# Altium schematic symbol library SparkFun-Coils.SCHLIB: 67 symbols
Pins are listed as number, name and electrical type; pins without a type are passive.

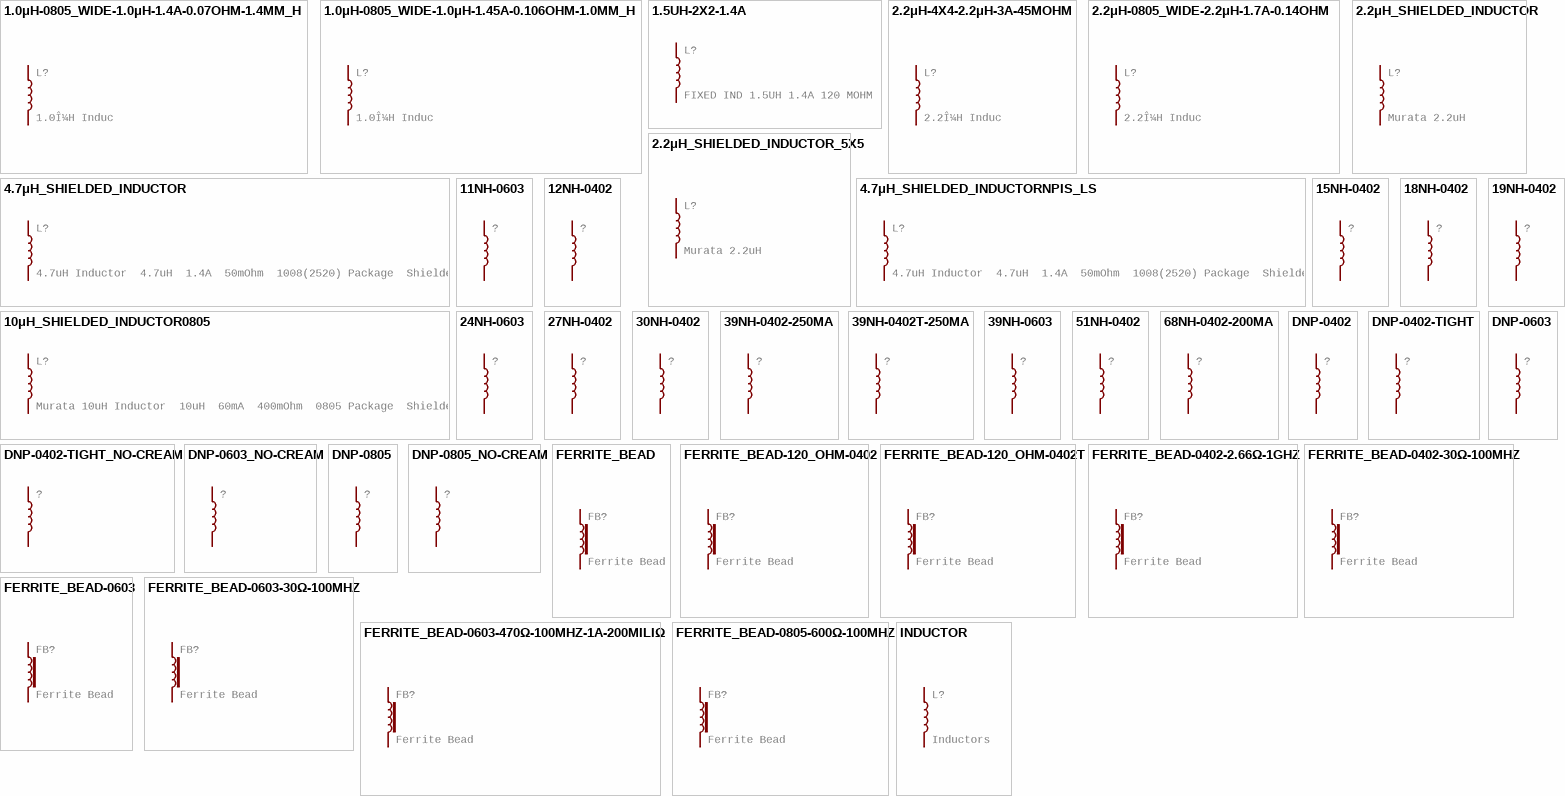
[diagram p0: symbols 1.0μH-0805_WIDE-1.0μH-1.4A-0.07OHM-1.4MM_H to INDUCTOR]

## 1.0μH-0805_WIDE-1.0μH-1.4A-0.07OHM-1.4MM_H
designator L?, comment 1.0Î¼H Inductor    Resist changes in electrical current. Basically a coil of wire.   SparkFun Products:  SparkFun Edge
GateName_1: G$1; DeviceName: -0805_WIDE-1.0μH-1.4A-0.07OHM-1.4MM_H; DeviceSetName: 1.0μH; PROD_ID: NDUC-14237; SymbolName_1: INDUCTOR; LibraryName: SparkFun-Coils; Package: 0805-WIDE
footprint 0805-WIDE
pins: 1, 2

## 1.0μH-0805_WIDE-1.0μH-1.45A-0.106OHM-1.0MM_H
designator L?, comment 1.0Î¼H Inductor    Resist changes in electrical current. Basically a coil of wire.   SparkFun Products:  SparkFun Edge
GateName_1: G$1; DeviceName: -0805_WIDE-1.0μH-1.45A-0.106OHM-1.0MM_H; DeviceSetName: 1.0μH; PROD_ID: NDUC-14375; SymbolName_1: INDUCTOR; LibraryName: SparkFun-Coils; Package: 0805-WIDE
footprint 0805-WIDE
pins: 1, 2

## 1.5UH-2X2-1.4A
designator L?, comment FIXED IND 1.5UH 1.4A 120 MOHM
GateName_1: G$1; SymbolName_1: INDUCTOR; DeviceName: -2X2-1.4A; PROD_ID: NDUC-15405; LibraryName: SparkFun-Coils; DeviceSetName: 1.5UH; Package: INDUCTOR_2X2
footprint INDUCTOR_2X2
pins: P$1 1, P$2 2

## 2.2μH-4X4-2.2μH-3A-45MOHM
designator L?, comment 2.2Î¼H Inductor    Resist changes in electrical current. Basically a coil of wire.   SparkFun Products:  SparkFun Edge - HX711
GateName_1: L1; DeviceName: -4X4-2.2μH-3A-45MOHM; DeviceSetName: 2.2μH; PROD_ID: NDUC-13770; SymbolName_1: INDUCTOR; LibraryName: SparkFun-Coils; Package: INDUCTOR_4X4MM
footprint INDUCTOR_4X4MM
pins: P$1 1, P$2 2

## 2.2μH-0805_WIDE-2.2μH-1.7A-0.14OHM
designator L?, comment 2.2Î¼H Inductor    Resist changes in electrical current. Basically a coil of wire.   SparkFun Products:  SparkFun Edge - HX711
GateName_1: L1; DeviceName: -0805_WIDE-2.2μH-1.7A-0.14OHM; DeviceSetName: 2.2μH; PROD_ID: NDUC-14234; SymbolName_1: INDUCTOR; LibraryName: SparkFun-Coils; Package: 0805-WIDE
footprint 0805-WIDE
pins: 1, 2

## 2.2μH_SHIELDED_INDUCTOR
designator L?, comment Murata 2.2uH Inductor  2.2uH  1.2A  110mOhm  0806 Package  Shielded       Bourns 2.2uH Inductor  2.2uH  5.5A  205mOhm  5x5mm Package  Shielded
GateName_1: G$1; DeviceSetName: 2.2μH_SHIELDED_INDUCTOR; PROD_ID: NDUC-14257; SymbolName_1: INDUCTOR; LibraryName: SparkFun-Coils; Package: 0806
footprint 0806
pins: 1, 2

## 2.2μH_SHIELDED_INDUCTOR_5X5
designator L?, comment Murata 2.2uH Inductor  2.2uH  1.2A  110mOhm  0806 Package  Shielded       Bourns 2.2uH Inductor  2.2uH  5.5A  205mOhm  5x5mm Package  Shielded
GateName_1: G$1; DeviceName: _5X5; DeviceSetName: 2.2μH_SHIELDED_INDUCTOR; PROD_ID: NDUC-15453; SymbolName_1: INDUCTOR; LibraryName: SparkFun-Coils; Package: INDUCTOR_5X5MM
footprint INDUCTOR_5X5MM
pins: P$1 1, P$2 2

## 4.7μH_SHIELDED_INDUCTOR
designator L?, comment 4.7uH Inductor  4.7uH  1.4A  50mOhm  1008(2520) Package  Shielded
GateName_1: L1; DeviceSetName: 4.7μH_SHIELDED_INDUCTOR; PROD_ID: NDUC-14880; SymbolName_1: INDUCTOR; LibraryName: SparkFun-Coils; Package: 1008(2520)
footprint 1008(2520)
pins: 1, 2

## 4.7μH_SHIELDED_INDUCTORNPIS_LS
designator L?, comment 4.7uH Inductor  4.7uH  1.4A  50mOhm  1008(2520) Package  Shielded
GateName_1: L1; DeviceName: NPIS_LS; DeviceSetName: 4.7μH_SHIELDED_INDUCTOR; PROD_ID: NDUC-15245; SymbolName_1: INDUCTOR; LibraryName: SparkFun-Coils; Package: INDUCTOR_4X4MM
footprint INDUCTOR_4X4MM
pins: P$1 1, P$2 2

## 10μH_SHIELDED_INDUCTOR0805
designator L?, comment Murata 10uH Inductor  10uH  60mA  400mOhm  0805 Package  Shielded
GateName_1: G$1; DeviceName: 0805; DeviceSetName: 10μH_SHIELDED_INDUCTOR; PROD_ID: NDUC-13231; SymbolName_1: INDUCTOR; LibraryName: SparkFun-Coils; Package: 0805
footprint 0805
pins: 1, 2

## 11NH-0603
designator ?
GateName_1: G$1; SymbolName_1: INDUCTOR; DeviceName: -0603; DeviceSetName: 11NH; PROD_ID: NDUC-14354; LibraryName: SparkFun-Coils; Package: 0603_MURATA
footprint 0603_MURATA
pins: P$1 1, P$2 2

## 12NH-0402
designator ?
GateName_1: G$1; SymbolName_1: INDUCTOR; DeviceName: -0402; DeviceSetName: 12NH; PROD_ID: NDUC-15271; LibraryName: SparkFun-Coils; Package: 0402_COILCRAFT; MOUSER_PART: 994-0402HP-12NXGLU
footprint 0402_COILCRAFT
pins: P$1 1, P$2 2

## 15NH-0402
designator ?
GateName_1: G$1; SymbolName_1: INDUCTOR; DeviceName: -0402; DeviceSetName: 15NH; PROD_ID: NDUC-15272; LibraryName: SparkFun-Coils; Package: 0402_COILCRAFT; MOUSER_PART: 994-0402HP-15NXGLU
footprint 0402_COILCRAFT
pins: P$1 1, P$2 2

## 18NH-0402
designator ?
GateName_1: G$1; SymbolName_1: INDUCTOR; DeviceName: -0402; DeviceSetName: 18NH; PROD_ID: NDUC-15277; LibraryName: SparkFun-Coils; Package: 0402_COILCRAFT; MOUSER_PART: 994-0402HP-18NXGLU
footprint 0402_COILCRAFT
pins: P$1 1, P$2 2

## 19NH-0402
designator ?
GateName_1: G$1; SymbolName_1: INDUCTOR; DeviceName: -0402; DeviceSetName: 19NH; PROD_ID: NDUC-14352; LibraryName: SparkFun-Coils; Package: 0402_MURATA
footprint 0402_MURATA
pins: P$1 1, P$2 2

## 24NH-0603
designator ?
GateName_1: G$1; SymbolName_1: INDUCTOR; DeviceName: -0603; DeviceSetName: 24NH; PROD_ID: NDUC-14353; LibraryName: SparkFun-Coils; Package: 0603_MURATA
footprint 0603_MURATA
pins: P$1 1, P$2 2

## 27NH-0402
designator ?
GateName_1: G$1; SymbolName_1: INDUCTOR; DeviceName: -0402; DeviceSetName: 27NH; PROD_ID: NDUC-15273; LibraryName: SparkFun-Coils; Package: 0402_COILCRAFT; MOUSER_PART: 994-0402HP-27NXGLU
footprint 0402_COILCRAFT
pins: P$1 1, P$2 2

## 30NH-0402
designator ?
GateName_1: G$1; SymbolName_1: INDUCTOR; DeviceName: -0402; DeviceSetName: 30NH; PROD_ID: NDUC-15275; LibraryName: SparkFun-Coils; Package: 0402_COILCRAFT; MOUSER_PART: 994-0402HP-30NXGLU
footprint 0402_COILCRAFT
pins: P$1 1, P$2 2

## 39NH-0402-250MA
designator ?
GateName_1: G$1; SymbolName_1: INDUCTOR; DeviceName: -0402-250MA; DeviceSetName: 39NH; PROD_ID: NDUC-15408; LibraryName: SparkFun-Coils; Package: 0402
footprint 0402
pins: 1, 2

## 39NH-0402T-250MA
designator ?
GateName_1: G$1; SymbolName_1: INDUCTOR; DeviceName: -0402T-250MA; DeviceSetName: 39NH; PROD_ID: NDUC-15408; LibraryName: SparkFun-Coils; Package: 0402-TIGHT
footprint 0402-TIGHT
pins: 1, 2

## 39NH-0603
designator ?
GateName_1: G$1; SymbolName_1: INDUCTOR; DeviceName: -0603; DeviceSetName: 39NH; PROD_ID: NDUC-14091; LibraryName: SparkFun-Coils; Package: 0603
footprint 0603
pins: 1, 2

## 51NH-0402
designator ?
GateName_1: G$1; SymbolName_1: INDUCTOR; DeviceName: -0402; DeviceSetName: 51NH; PROD_ID: NDUC-15276; LibraryName: SparkFun-Coils; Package: 0402_COILCRAFT; MOUSER_PART: 994-0402HP-51NXGLU
footprint 0402_COILCRAFT
pins: P$1 1, P$2 2

## 68NH-0402-200MA
designator ?
GateName_1: G$1; SymbolName_1: INDUCTOR; DeviceName: -0402-200MA; DeviceSetName: 68NH; PROD_ID: NDUC-15356; LibraryName: SparkFun-Coils; Package: 0402_COILCRAFT
footprint 0402_COILCRAFT
pins: P$1 1, P$2 2

## DNP-0402
designator ?
GateName_1: L1; SymbolName_1: INDUCTOR; DeviceName: -0402; DeviceSetName: DNP; LibraryName: SparkFun-Coils; Package: 0402
footprint 0402
pins: 1, 2

## DNP-0402-TIGHT
designator ?
GateName_1: L1; SymbolName_1: INDUCTOR; DeviceName: -0402-TIGHT; DeviceSetName: DNP; LibraryName: SparkFun-Coils; Package: 0402-TIGHT
footprint 0402-TIGHT
pins: 1, 2

## DNP-0402-TIGHT_NO-CREAM
designator ?
GateName_1: L1; SymbolName_1: INDUCTOR; DeviceName: -0402-TIGHT_NO-CREAM; DeviceSetName: DNP; LibraryName: SparkFun-Coils; Package: 0402-TIGHT_NO-CREAM
footprint 0402-TIGHT_NO-CREAM
pins: 1, 2

## DNP-0603
designator ?
GateName_1: L1; SymbolName_1: INDUCTOR; DeviceName: -0603; DeviceSetName: DNP; LibraryName: SparkFun-Coils; Package: 0603
footprint 0603
pins: 1, 2

## DNP-0603_NO-CREAM
designator ?
GateName_1: L1; SymbolName_1: INDUCTOR; DeviceName: -0603_NO-CREAM; DeviceSetName: DNP; LibraryName: SparkFun-Coils; Package: 0603_NO-CREAM
footprint 0603_NO-CREAM
pins: 1, 2

## DNP-0805
designator ?
GateName_1: L1; SymbolName_1: INDUCTOR; DeviceName: -0805; DeviceSetName: DNP; LibraryName: SparkFun-Coils; Package: 0805
footprint 0805
pins: 1, 2

## DNP-0805_NO-CREAM
designator ?
GateName_1: L1; SymbolName_1: INDUCTOR; DeviceName: -0805_NO-CREAM; DeviceSetName: DNP; LibraryName: SparkFun-Coils; Package: 0805_NO-CREAM
footprint 0805_NO-CREAM
pins: 1, 2

## FERRITE_BEAD
designator FB?, comment Ferrite Bead (blocks, cores, rings, chokes, etc.)    Inductor with layers of ferrite used to suppress high frequencies. Often used to isolate high frequency noise.   SparkFun Products:  IOIO-OTG - V2.2  SparkFun SAMD21 Mini Breakout  SparkFun 6 Degrees of Freedom Breakout - LSM6DS3  SparkFun SAMD21 Dev Breakout
GateName_1: G$1; SymbolName_1: FERRITE_BEAD; LibraryName: SparkFun-Coils; DeviceSetName: FERRITE_BEAD; Package: 0402
footprint 0402
pins: 1, 2

## FERRITE_BEAD-120_OHM-0402
designator FB?, comment Ferrite Bead (blocks, cores, rings, chokes, etc.)    Inductor with layers of ferrite used to suppress high frequencies. Often used to isolate high frequency noise.
MFG_PART: BLM15HB121SN1D; GateName_1: G$1; SymbolName_1: FERRITE_BEAD; DeviceName: -0402; DeviceSetName: FERRITE_BEAD-120_OHM; PROD_ID: NDUC-14206; LibraryName: SparkFun-Coils; Package: 0402
footprint 0402
pins: 1, 2

## FERRITE_BEAD-120_OHM-0402T
designator FB?, comment Ferrite Bead (blocks, cores, rings, chokes, etc.)    Inductor with layers of ferrite used to suppress high frequencies. Often used to isolate high frequency noise.
GateName_1: G$1; SymbolName_1: FERRITE_BEAD; DeviceName: -0402T; DeviceSetName: FERRITE_BEAD-120_OHM; PROD_ID: NDUC-14206; LibraryName: SparkFun-Coils; Package: 0402-TIGHT
footprint 0402-TIGHT
pins: 1, 2

## FERRITE_BEAD-0402-2.66Ω-1GHZ
designator FB?, comment Ferrite Bead (blocks, cores, rings, chokes, etc.)    Inductor with layers of ferrite used to suppress high frequencies. Often used to isolate high frequency noise.   SparkFun Products:  IOIO-OTG - V2.2  SparkFun SAMD21 Mini Breakout  SparkFun 6 Degrees of Freedom Breakout - LSM6DS3  SparkFun SAMD21 Dev Breakout
GateName_1: G$1; SymbolName_1: FERRITE_BEAD; DeviceName: -0402-2.66Ω-1GHZ; PROD_ID: NDUC-15072; LibraryName: SparkFun-Coils; DeviceSetName: FERRITE_BEAD; Package: 0402-TIGHT
footprint 0402-TIGHT
pins: 1, 2

## FERRITE_BEAD-0402-30Ω-100MHZ
designator FB?, comment Ferrite Bead (blocks, cores, rings, chokes, etc.)    Inductor with layers of ferrite used to suppress high frequencies. Often used to isolate high frequency noise.   SparkFun Products:  IOIO-OTG - V2.2  SparkFun SAMD21 Mini Breakout  SparkFun 6 Degrees of Freedom Breakout - LSM6DS3  SparkFun SAMD21 Dev Breakout
GateName_1: G$1; SymbolName_1: FERRITE_BEAD; DeviceName: -0402-30Ω-100MHZ; PROD_ID: NDUC-15133; LibraryName: SparkFun-Coils; DeviceSetName: FERRITE_BEAD; Package: 0402-TIGHT
footprint 0402-TIGHT
pins: 1, 2

## FERRITE_BEAD-0603
designator FB?, comment Ferrite Bead (blocks, cores, rings, chokes, etc.)    Inductor with layers of ferrite used to suppress high frequencies. Often used to isolate high frequency noise.   SparkFun Products:  IOIO-OTG - V2.2  SparkFun SAMD21 Mini Breakout  SparkFun 6 Degrees of Freedom Breakout - LSM6DS3  SparkFun SAMD21 Dev Breakout
GateName_1: G$1; SymbolName_1: FERRITE_BEAD; DeviceName: -0603; PROD_ID: NDUC-13805; LibraryName: SparkFun-Coils; DeviceSetName: FERRITE_BEAD; Package: 0603
footprint 0603
pins: 1, 2

## FERRITE_BEAD-0603-30Ω-100MHZ
designator FB?, comment Ferrite Bead (blocks, cores, rings, chokes, etc.)    Inductor with layers of ferrite used to suppress high frequencies. Often used to isolate high frequency noise.   SparkFun Products:  IOIO-OTG - V2.2  SparkFun SAMD21 Mini Breakout  SparkFun 6 Degrees of Freedom Breakout - LSM6DS3  SparkFun SAMD21 Dev Breakout
GateName_1: G$1; SymbolName_1: FERRITE_BEAD; DeviceName: -0603-30Ω-100MHZ; PROD_ID: NDUC-07859; LibraryName: SparkFun-Coils; DeviceSetName: FERRITE_BEAD; Package: 0603
footprint 0603
pins: 1, 2

## FERRITE_BEAD-0603-470Ω-100MHZ-1A-200MILIΩ
designator FB?, comment Ferrite Bead (blocks, cores, rings, chokes, etc.)    Inductor with layers of ferrite used to suppress high frequencies. Often used to isolate high frequency noise.   SparkFun Products:  IOIO-OTG - V2.2  SparkFun SAMD21 Mini Breakout  SparkFun 6 Degrees of Freedom Breakout - LSM6DS3  SparkFun SAMD21 Dev Breakout
GateName_1: G$1; SymbolName_1: FERRITE_BEAD; DeviceName: -0603-470Ω-100MHZ-1A-200MILIΩ; PROD_ID: NDUC-12579; LibraryName: SparkFun-Coils; DeviceSetName: FERRITE_BEAD; Package: 0603
footprint 0603
pins: 1, 2

## FERRITE_BEAD-0805-600Ω-100MHZ
designator FB?, comment Ferrite Bead (blocks, cores, rings, chokes, etc.)    Inductor with layers of ferrite used to suppress high frequencies. Often used to isolate high frequency noise.   SparkFun Products:  IOIO-OTG - V2.2  SparkFun SAMD21 Mini Breakout  SparkFun 6 Degrees of Freedom Breakout - LSM6DS3  SparkFun SAMD21 Dev Breakout
GateName_1: G$1; SymbolName_1: FERRITE_BEAD; DeviceName: -0805-600Ω-100MHZ; PROD_ID: NDUC-14988; LibraryName: SparkFun-Coils; DeviceSetName: FERRITE_BEAD; Package: 0805
footprint 0805
pins: 1, 2

## INDUCTOR
designator L?, comment Inductors    Resist changes in electrical current. Basically a coil of wire.   SparkFun Products:  SparkFun Load Cell Amplifier - HX711  IOIO-OTG - V2.2
GateName_1: G$1; SymbolName_1: INDUCTOR; LibraryName: SparkFun-Coils; DeviceSetName: INDUCTOR; Package: XFL4020
footprint XFL4020
pins: P$1 1, P$2 2

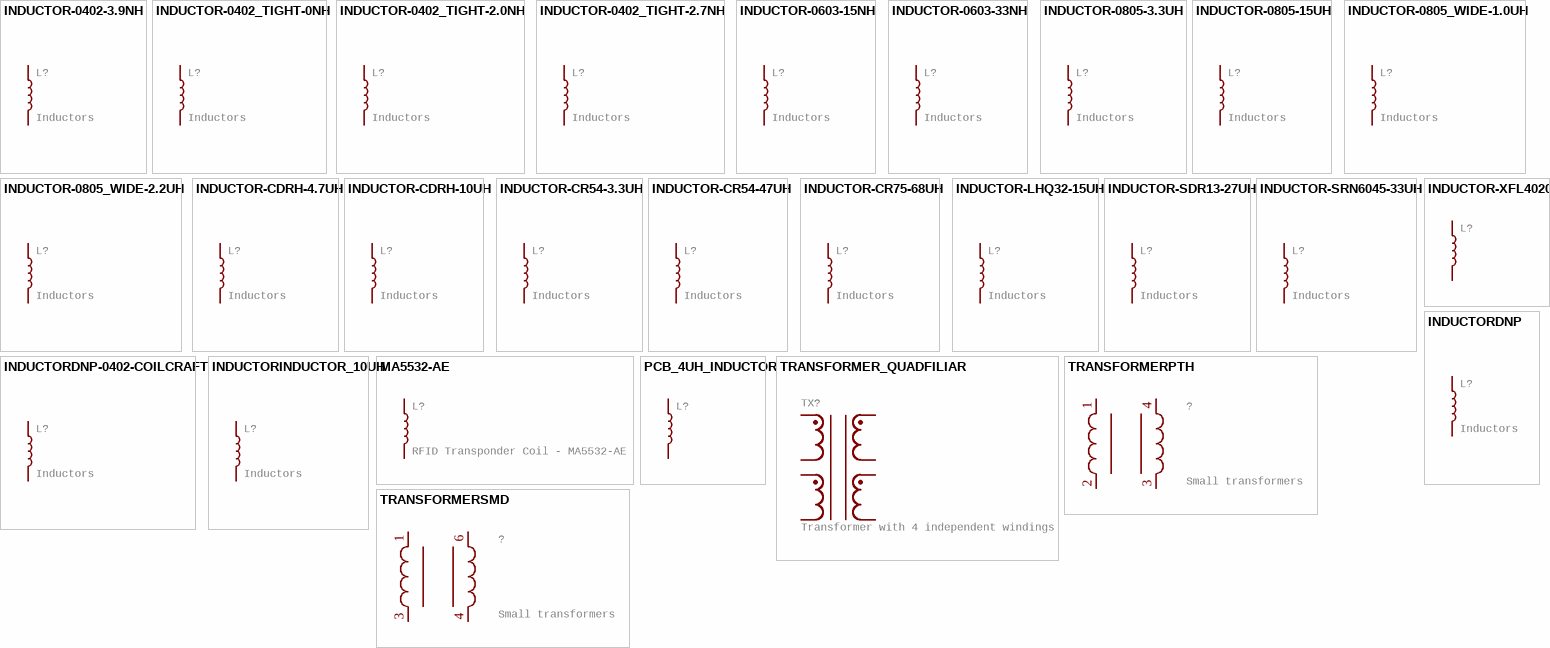
[diagram p1: symbols INDUCTOR-0402-3.9NH to TRANSFORMERSMD]

## INDUCTOR-0402-3.9NH
designator L?, comment Inductors    Resist changes in electrical current. Basically a coil of wire.   SparkFun Products:  SparkFun Load Cell Amplifier - HX711  IOIO-OTG - V2.2
GateName_1: G$1; DeviceName: -0402-3.9NH; PROD_ID: NDUC-13457; SymbolName_1: INDUCTOR; LibraryName: SparkFun-Coils; DeviceSetName: INDUCTOR; Package: 0402
footprint 0402
pins: 1, 2

## INDUCTOR-0402_TIGHT-0NH
designator L?, comment Inductors    Resist changes in electrical current. Basically a coil of wire.   SparkFun Products:  SparkFun Load Cell Amplifier - HX711  IOIO-OTG - V2.2
GateName_1: G$1; DeviceName: -0402_TIGHT-0NH; SymbolName_1: INDUCTOR; LibraryName: SparkFun-Coils; DeviceSetName: INDUCTOR; Package: 0402-TIGHT
footprint 0402-TIGHT
pins: 1, 2

## INDUCTOR-0402_TIGHT-2.0NH
designator L?, comment Inductors    Resist changes in electrical current. Basically a coil of wire.   SparkFun Products:  SparkFun Load Cell Amplifier - HX711  IOIO-OTG - V2.2
GateName_1: G$1; DeviceName: -0402_TIGHT-2.0NH; PROD_ID: NDUC-14238; SymbolName_1: INDUCTOR; LibraryName: SparkFun-Coils; DeviceSetName: INDUCTOR; Package: 0402-TIGHT
footprint 0402-TIGHT
pins: 1, 2

## INDUCTOR-0402_TIGHT-2.7NH
designator L?, comment Inductors    Resist changes in electrical current. Basically a coil of wire.   SparkFun Products:  SparkFun Load Cell Amplifier - HX711  IOIO-OTG - V2.2
GateName_1: G$1; DeviceName: -0402_TIGHT-2.7NH; PROD_ID: NDUC-14236; SymbolName_1: INDUCTOR; LibraryName: SparkFun-Coils; DeviceSetName: INDUCTOR; Package: 0402-TIGHT
footprint 0402-TIGHT
pins: 1, 2

## INDUCTOR-0603-15NH
designator L?, comment Inductors    Resist changes in electrical current. Basically a coil of wire.   SparkFun Products:  SparkFun Load Cell Amplifier - HX711  IOIO-OTG - V2.2
GateName_1: G$1; DeviceName: -0603-15NH; PROD_ID: NDUC-11660; SymbolName_1: INDUCTOR; LibraryName: SparkFun-Coils; DeviceSetName: INDUCTOR; Package: 0603
footprint 0603
pins: 1, 2

## INDUCTOR-0603-33NH
designator L?, comment Inductors    Resist changes in electrical current. Basically a coil of wire.   SparkFun Products:  SparkFun Load Cell Amplifier - HX711  IOIO-OTG - V2.2
GateName_1: G$1; DeviceName: -0603-33NH; PROD_ID: NDUC-07874; SymbolName_1: INDUCTOR; LibraryName: SparkFun-Coils; DeviceSetName: INDUCTOR; Package: 0603
footprint 0603
pins: 1, 2

## INDUCTOR-0805-3.3UH
designator L?, comment Inductors    Resist changes in electrical current. Basically a coil of wire.   SparkFun Products:  SparkFun Load Cell Amplifier - HX711  IOIO-OTG - V2.2
GateName_1: G$1; DeviceName: -0805-3.3UH; PROD_ID: NDUC-13076; SymbolName_1: INDUCTOR; LibraryName: SparkFun-Coils; DeviceSetName: INDUCTOR; Package: 0805
footprint 0805
pins: 1, 2

## INDUCTOR-0805-15UH
designator L?, comment Inductors    Resist changes in electrical current. Basically a coil of wire.   SparkFun Products:  SparkFun Load Cell Amplifier - HX711  IOIO-OTG - V2.2
GateName_1: G$1; DeviceName: -0805-15UH; SymbolName_1: INDUCTOR; LibraryName: SparkFun-Coils; DeviceSetName: INDUCTOR; Package: INDUCTOR_15UH
footprint INDUCTOR_15UH
pins: P1 1, P2 2

## INDUCTOR-0805_WIDE-1.0UH
designator L?, comment Inductors    Resist changes in electrical current. Basically a coil of wire.   SparkFun Products:  SparkFun Load Cell Amplifier - HX711  IOIO-OTG - V2.2
GateName_1: G$1; DeviceName: -0805_WIDE-1.0UH; PROD_ID: NDUC-14237; SymbolName_1: INDUCTOR; LibraryName: SparkFun-Coils; DeviceSetName: INDUCTOR; Package: 0805-WIDE
footprint 0805-WIDE
pins: 1, 2

## INDUCTOR-0805_WIDE-2.2UH
designator L?, comment Inductors    Resist changes in electrical current. Basically a coil of wire.   SparkFun Products:  SparkFun Load Cell Amplifier - HX711  IOIO-OTG - V2.2
GateName_1: G$1; DeviceName: -0805_WIDE-2.2UH; PROD_ID: NDUC-14234; SymbolName_1: INDUCTOR; LibraryName: SparkFun-Coils; DeviceSetName: INDUCTOR; Package: 0805-WIDE
footprint 0805-WIDE
pins: 1, 2

## INDUCTOR-CDRH-4.7UH
designator L?, comment Inductors    Resist changes in electrical current. Basically a coil of wire.   SparkFun Products:  SparkFun Load Cell Amplifier - HX711  IOIO-OTG - V2.2
GateName_1: G$1; DeviceName: -CDRH-4.7UH; PROD_ID: NDUC-10146; SymbolName_1: INDUCTOR; LibraryName: SparkFun-Coils; DeviceSetName: INDUCTOR; Package: INDUCTOR_4.7UH
footprint INDUCTOR_4.7UH
pins: P$1 1, P$2 2

## INDUCTOR-CDRH-10UH
designator L?, comment Inductors    Resist changes in electrical current. Basically a coil of wire.   SparkFun Products:  SparkFun Load Cell Amplifier - HX711  IOIO-OTG - V2.2
GateName_1: G$1; DeviceName: -CDRH-10UH; PROD_ID: NDUC-13968; SymbolName_1: INDUCTOR; LibraryName: SparkFun-Coils; DeviceSetName: INDUCTOR; Package: INDUCTOR_4.7UH
footprint INDUCTOR_4.7UH
pins: P$1 1, P$2 2

## INDUCTOR-CR54-3.3UH
designator L?, comment Inductors    Resist changes in electrical current. Basically a coil of wire.   SparkFun Products:  SparkFun Load Cell Amplifier - HX711  IOIO-OTG - V2.2
GateName_1: G$1; DeviceName: -CR54-3.3UH; PROD_ID: NDUC-11157; SymbolName_1: INDUCTOR; LibraryName: SparkFun-Coils; DeviceSetName: INDUCTOR; Package: CR54
footprint CR54
pins: P$1 1, P$2 2

## INDUCTOR-CR54-47UH
designator L?, comment Inductors    Resist changes in electrical current. Basically a coil of wire.   SparkFun Products:  SparkFun Load Cell Amplifier - HX711  IOIO-OTG - V2.2
GateName_1: G$1; DeviceName: -CR54-47UH; PROD_ID: NDUC-10789; SymbolName_1: INDUCTOR; LibraryName: SparkFun-Coils; DeviceSetName: INDUCTOR; Package: CR54
footprint CR54
pins: P$1 1, P$2 2

## INDUCTOR-CR75-68UH
designator L?, comment Inductors    Resist changes in electrical current. Basically a coil of wire.   SparkFun Products:  SparkFun Load Cell Amplifier - HX711  IOIO-OTG - V2.2
GateName_1: G$1; DeviceName: -CR75-68UH; PROD_ID: NDUC-09739; SymbolName_1: INDUCTOR; LibraryName: SparkFun-Coils; DeviceSetName: INDUCTOR; Package: CR75
footprint CR75
pins: P$1 1, P$2 2

## INDUCTOR-LHQ32-15UH
designator L?, comment Inductors    Resist changes in electrical current. Basically a coil of wire.   SparkFun Products:  SparkFun Load Cell Amplifier - HX711  IOIO-OTG - V2.2
GateName_1: G$1; DeviceName: -LHQ32-15UH; PROD_ID: NDUC-14107; SymbolName_1: INDUCTOR; LibraryName: SparkFun-Coils; DeviceSetName: INDUCTOR; Package: INDUCTOR_LQH32
footprint INDUCTOR_LQH32
pins: P$1 1, P$2 2

## INDUCTOR-SDR13-27UH
designator L?, comment Inductors    Resist changes in electrical current. Basically a coil of wire.   SparkFun Products:  SparkFun Load Cell Amplifier - HX711  IOIO-OTG - V2.2
GateName_1: G$1; DeviceName: -SDR13-27UH; PROD_ID: NDUC-12529; SymbolName_1: INDUCTOR; LibraryName: SparkFun-Coils; DeviceSetName: INDUCTOR; Package: INDUCTOR_SDR1307
footprint INDUCTOR_SDR1307
pins: P$1 1, P$2 2

## INDUCTOR-SRN6045-33UH
designator L?, comment Inductors    Resist changes in electrical current. Basically a coil of wire.   SparkFun Products:  SparkFun Load Cell Amplifier - HX711  IOIO-OTG - V2.2
GateName_1: G$1; DeviceName: -SRN6045-33UH; PROD_ID: NDUC-11627; SymbolName_1: INDUCTOR; LibraryName: SparkFun-Coils; DeviceSetName: INDUCTOR; Package: SRN6045
footprint SRN6045
pins: 1, 2

## INDUCTOR-XFL4020
designator L?
GateName_1: G$1; SymbolName_1: INDUCTOR; DeviceSetName: INDUCTOR-XFL4020; PROD_ID: INDUC-13855; LibraryName: SparkFun-Coils; Package: XFL4020
footprint XFL4020
pins: P$1 1, P$2 2

## INDUCTORDNP
designator L?, comment Inductors    Resist changes in electrical current. Basically a coil of wire.   SparkFun Products:  SparkFun Load Cell Amplifier - HX711  IOIO-OTG - V2.2
GateName_1: G$1; DeviceName: DNP; SymbolName_1: INDUCTOR; LibraryName: SparkFun-Coils; DeviceSetName: INDUCTOR; Package: 0603
footprint 0603
pins: 1, 2

## INDUCTORDNP-0402-COILCRAFT
designator L?, comment Inductors    Resist changes in electrical current. Basically a coil of wire.   SparkFun Products:  SparkFun Load Cell Amplifier - HX711  IOIO-OTG - V2.2
GateName_1: G$1; DeviceName: DNP-0402-COILCRAFT; SymbolName_1: INDUCTOR; LibraryName: SparkFun-Coils; DeviceSetName: INDUCTOR; Package: 0402_COILCRAFT
footprint 0402_COILCRAFT
pins: P$1 1, P$2 2

## INDUCTORINDUCTOR_10UH
designator L?, comment Inductors    Resist changes in electrical current. Basically a coil of wire.   SparkFun Products:  SparkFun Load Cell Amplifier - HX711  IOIO-OTG - V2.2
GateName_1: G$1; DeviceName: INDUCTOR_10UH; PROD_ID: NDUC-13913; SymbolName_1: INDUCTOR; LibraryName: SparkFun-Coils; DeviceSetName: INDUCTOR; Package: INDUCTOR_3X3
footprint INDUCTOR_3X3
pins: P$1 1, P$2 2

## MA5532-AE
designator L?, comment RFID Transponder Coil - MA5532-AE
GateName_1: G$1; SymbolName_1: INDUCTOR; PROD_ID: NDUC-11334; LibraryName: SparkFun-Coils; DeviceSetName: MA5532-AE; Package: MA5532-AE
footprint MA5532-AE
pins: 1, 2

## PCB_4UH_INDUCTOR
designator L?
GateName_1: G$1; SymbolName_1: INDUCTOR; DeviceSetName: PCB_4UH_INDUCTOR; LibraryName: SparkFun-Coils; Package: PCB_4UH_INDUCTOR
footprint PCB_4UH_INDUCTOR
pins: IN1 1, IN2 2

## TRANSFORMER_QUADFILIAR
designator TX?, comment Transformer with 4 independent windings
GateName_1: G$1; SymbolName_1: TRANSFORMER-QUADFILIAR; DeviceSetName: TRANSFORMER_QUADFILIAR; LibraryName: SparkFun-Coils; Package: COILCRAFT_DA230X
footprint COILCRAFT_DA230X
pins: P$1 1, P$2 2, P$3 3, P$4 4, P$5 5, P$6 6, P$7 7, P$8 8

## TRANSFORMERPTH
designator ?, comment Small transformers
GateName_1: G$1; DeviceName: PTH; SymbolName_1: TRANSFORMER; LibraryName: SparkFun-Coils; DeviceSetName: TRANSFORMER; Package: TRANSFORMER
footprint TRANSFORMER
pins: 1 (io), 2 (io), 3 (io), 4 (io)

## TRANSFORMERSMD
designator ?, comment Small transformers
GateName_1: G$1; DeviceName: SMD; SymbolName_1: TRANSFORMER; LibraryName: SparkFun-Coils; DeviceSetName: TRANSFORMER; Package: TRANSFORMER_SMD
footprint TRANSFORMER_SMD
pins: 1 (io), 3 2 (io), 4 3 (io), 6 4 (io)